# Altium schematic symbol library CC1125RHBR.SchLib: 1 symbol
Pins are listed as number, name and electrical type; pins without a type are passive.

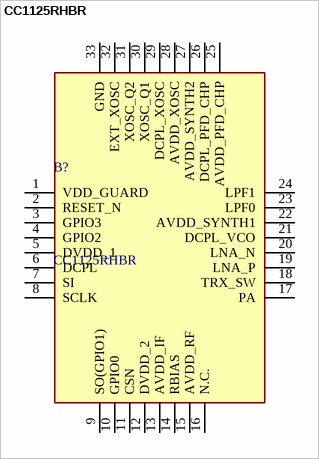
[diagram p0: symbol CC1125RHBR]

## CC1125RHBR
designator B?
Ultra-High performance Sub-1 GHz Transceiver for Narrowband Systems; Manufacturer_Name: Texas Instruments; Geometry.Height: 1mm; Mouser Part Number: 595-CC1125RHBR; Mouser Price/Stock: https://www.mouser.co.uk/ProductDetail/Texas-Instruments/CC1125RHBR?qs=uuvYgmlZVOsNmcFvwGcWqA%3D%3D; Manufacturer_Part_Number: CC1125RHBR; Datasheet Link: http://www.ti.com/lit/gpn/cc1125
footprint QFN50P500X500X100-33N-D
pins: 1 VDD_GUARD, 2 RESET_N, 3 GPIO3, 4 GPIO2, 5 DVDD_1, 6 DCPL, 7 SI, 8 SCLK, 9 SO(GPIO1), 10 GPIO0, 11 CSN, 12 DVDD_2, 13 AVDD_IF, 14 RBIAS, 15 AVDD_RF, 16 N.C., 17 PA, 18 TRX_SW, 19 LNA_P, 20 LNA_N, 21 DCPL_VCO, 22 AVDD_SYNTH1, 23 LPF0, 24 LPF1, 25 AVDD_PFD_CHP, 26 DCPL_PFD_CHP, 27 AVDD_SYNTH2, 28 AVDD_XOSC, 29 DCPL_XOSC, 30 XOSC_Q1, 31 XOSC_Q2, 32 EXT_XOSC, 33 GND